# Altium footprint library SiT9121AI2B133E100000000G.PcbLib: 1 footprints
Each footprint in its own frame and in the unit in brackets; x right, y up, seen from the top. Pads: shape width x height; smd on the part's side, far side on the other; paste and mask are expansions set on the pad; w line width, h text height; cw(c..) or ccw(c..) is an arc to the next point about the centre after c.
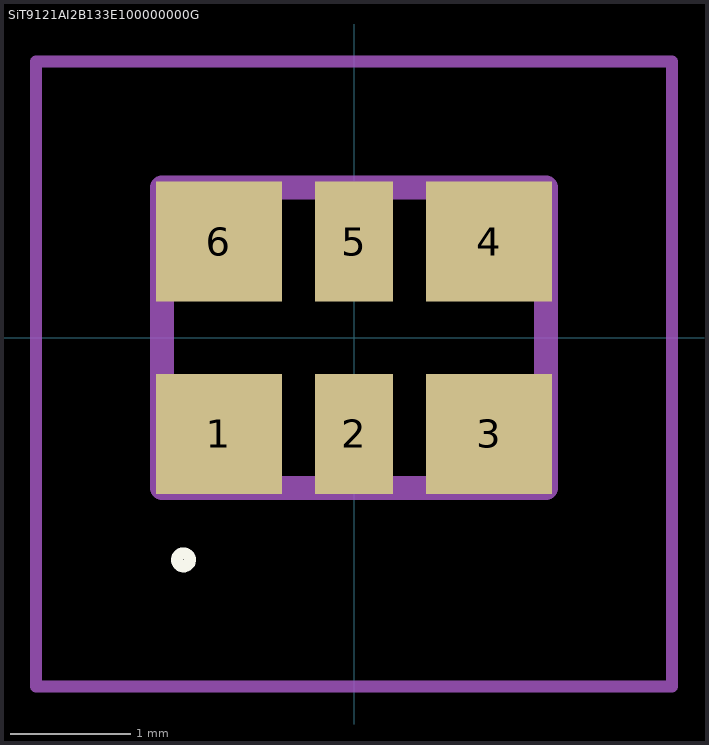
[diagram p0: the footprint, top view; thin cyan lines are the x and y axes]

## SiT9121AI2B133E100000000G [mm]
pads (6):
  rect 1.05x1 smd: 1(-1.125,-0.8) 3(1.125,-0.8) 4(1.125,0.8) 6(-1.125,0.8)
  rect 0.65x1 smd: 2(0,-0.8) 5(0,0.8)
Top Overlay:
  lines w0.1: -1.44,-1.9 cw(c-1.42,-1.85) -1.4,-1.8 ; -1.44,-1.9 -1.44,-1.9 ; -1.44,-1.9 ccw(c-1.42,-1.85) -1.4,-1.8 ; -1.4,-1.8 -1.4,-1.8
Mechanical 15:
  lines w0.2: -1.6,-1.25 1.6,-1.25 1.6,1.25 -1.6,1.25 -1.6,-1.25
Mechanical 20:
  lines w0.1: -2.65,-2.904 2.65,-2.904 2.65,2.3 -2.65,2.3 -2.65,-2.904